# Altium integrated library CL03Y104KP3NNWC.IntLib: 1 symbol
Pins are listed as number, name and electrical type; pins without a type are passive.

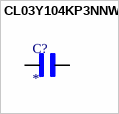
[diagram p0: symbol CL03Y104KP3NNWC]

## CL03Y104KP3NNWC
designator C?
Ã‡ok KatmanlÄ± Seramik KapasitÃ¶rler MLCC - SMD/SMT X7S, , 100nF, +/-%10, 10v, 0201; MF: Samsung Electro-Mechanics; MP: CL03Y104KP3NNWC; SnapEDA_Link: https://www.snapeda.com/parts/CL03Y104KP3NNWC/Samsung/view-part/?ref=snap; Package: SMD-2 Samsung; Value: *; Check_prices: https://www.snapeda.com/parts/CL03Y104KP3NNWC/Samsung/view-part/?ref=eda
footprint CAPC0603X33N
pins: 1, 2